# Altium schematic symbol library PDU-UV17.SchLib: 44 symbols
Pins are listed as number, name and electrical type; pins without a type are passive.

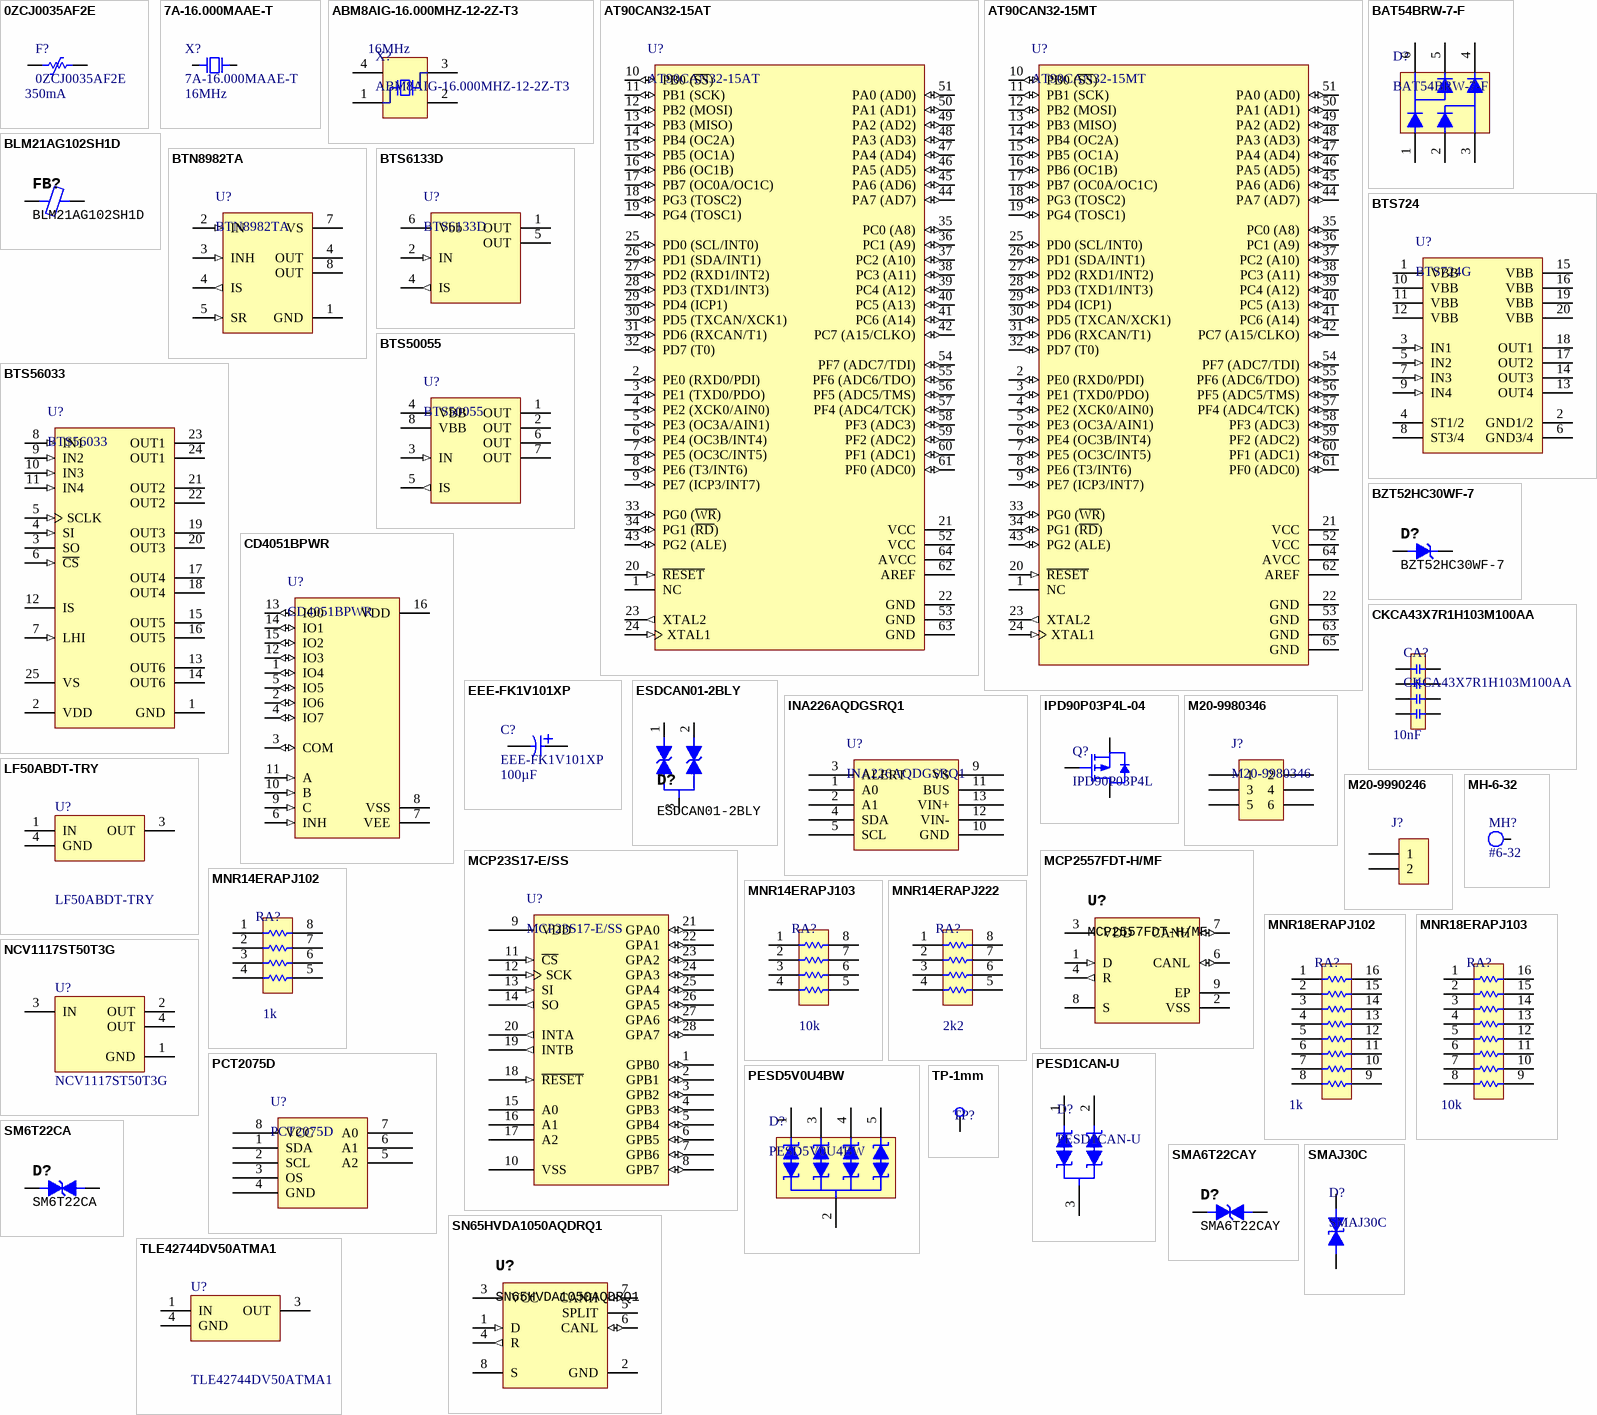
[diagram p0: symbols 0ZCJ0035AF2E to TP-1mm]

## 0ZCJ0035AF2E
designator F?  value 350mA
footprint 0ZCJ-1206-0.9
pins: 1, 2

## 7A-16.000MAAE-T
designator X?  value 16MHz
SMD Crystal Oscillator 12 pF; Load Capacitance: 12pF; Supplier 1: Digi-Key; Supplier Part Number 1: 887-1747-1-ND
footprint QFN200P500X320X135-2N (QFN, 2-Leads, Body 5.00x3.20mm, Pitch 2.00mm, IPC Medium Density)
pins: 1, 2

## ABM8AIG-16.000MHZ-12-2Z-T3
designator X?  value 16MHz
SMD Crystal Oscillator 12 pF; Load Capacitance: 12pF; Supplier 1: Digi-Key; Supplier Part Number 1: 535-13386-1-ND
footprint DFN600P310X80-4N (DFN, 4-Leads, Body 2.50x3.10mm, Pitch 6.00mm, IPC Medium Density)
pins: 1, 2, 3, 4

## AT90CAN32-15AT
designator U?
Supplier 1: Digi-Key; Supplier Part Number 1: AT90CAN32-15ATCT-ND
footprint TQFP80P1600X1600X120-64N (TQFP, 64-Leads, Body 14.00x14.00mm, Pitch 0.80mm, IPC Medium Density)
pins: 1 NC, 2 PE0 (RXD0/PDI) (io), 3 PE1 (TXD0/PDO) (io), 4 PE2 (XCK0/AIN0) (io), 5 PE3 (OC3A/AIN1) (io), 6 PE4 (OC3B/INT4) (io), 7 PE5 (OC3C/INT5) (io), 8 PE6 (T3/INT6) (io), 9 PE7 (ICP3/INT7) (io), 10 PB0 (~{SS}) (io), 11 PB1 (SCK) (io), 12 PB2 (MOSI) (io), 13 PB3 (MISO) (io), 14 PB4 (OC2A) (io), 15 PB5 (OC1A) (io), 16 PB6 (OC1B) (io), 17 PB7 (OC0A/OC1C) (io), 18 PG3 (TOSC2) (io), 19 PG4 (TOSC1) (io), 20 ~{RESET} (in), 21 VCC (power), 22 GND (power), 23 XTAL2 (out), 24 XTAL1 (in), 25 PD0 (SCL/INT0) (io), 26 PD1 (SDA/INT1) (io), 27 PD2 (RXD1/INT2) (io), 28 PD3 (TXD1/INT3) (io), 29 PD4 (ICP1) (io), 30 PD5 (TXCAN/XCK1) (io), 31 PD6 (RXCAN/T1) (io), 32 PD7 (T0) (io), 33 PG0 (~{WR}) (io), 34 PG1 (~{RD}) (io), 35 PC0 (A8) (io), 36 PC1 (A9) (io), 37 PC2 (A10) (io), 38 PC3 (A11) (io), 39 PC4 (A12) (io), 40 PC5 (A13) (io), 41 PC6 (A14) (io), 42 PC7 (A15/CLKO) (io), 43 PG2 (ALE) (io), 44 PA7 (AD7) (io), 45 PA6 (AD6) (io), 46 PA5 (AD5) (io), 47 PA4 (AD4) (io), 48 PA3 (AD3) (io), 49 PA2 (AD2) (io), 50 PA1 (AD1) (io), 51 PA0 (AD0) (io), 52 VCC (power), 53 GND (power), 54 PF7 (ADC7/TDI) (io), 55 PF6 (ADC6/TDO) (io), 56 PF5 (ADC5/TMS) (io), 57 PF4 (ADC4/TCK) (io), 58 PF3 (ADC3) (io), 59 PF2 (ADC2) (io), 60 PF1 (ADC1) (io), 61 PF0 (ADC0) (io), 62 AREF (power), 63 GND (power), 64 AVCC (power)

## AT90CAN32-15MT
designator U?
Supplier 1: Digi-Key; Supplier Part Number 1: AT90CAN32-15MTCT-ND
footprint QFN50P900X900X100_HS-65N (QFN, 64-Leads, Body 9.00x9.00mm, Pitch 0.50mm, Thermal Pad 5.38x5.38mm, IPC Medium Density)
pins: 1 NC, 2 PE0 (RXD0/PDI) (io), 3 PE1 (TXD0/PDO) (io), 4 PE2 (XCK0/AIN0) (io), 5 PE3 (OC3A/AIN1) (io), 6 PE4 (OC3B/INT4) (io), 7 PE5 (OC3C/INT5) (io), 8 PE6 (T3/INT6) (io), 9 PE7 (ICP3/INT7) (io), 10 PB0 (~{SS}) (io), 11 PB1 (SCK) (io), 12 PB2 (MOSI) (io), 13 PB3 (MISO) (io), 14 PB4 (OC2A) (io), 15 PB5 (OC1A) (io), 16 PB6 (OC1B) (io), 17 PB7 (OC0A/OC1C) (io), 18 PG3 (TOSC2) (io), 19 PG4 (TOSC1) (io), 20 ~{RESET} (in), 21 VCC (power), 22 GND (power), 23 XTAL2 (out), 24 XTAL1 (in), 25 PD0 (SCL/INT0) (io), 26 PD1 (SDA/INT1) (io), 27 PD2 (RXD1/INT2) (io), 28 PD3 (TXD1/INT3) (io), 29 PD4 (ICP1) (io), 30 PD5 (TXCAN/XCK1) (io), 31 PD6 (RXCAN/T1) (io), 32 PD7 (T0) (io), 33 PG0 (~{WR}) (io), 34 PG1 (~{RD}) (io), 35 PC0 (A8) (io), 36 PC1 (A9) (io), 37 PC2 (A10) (io), 38 PC3 (A11) (io), 39 PC4 (A12) (io), 40 PC5 (A13) (io), 41 PC6 (A14) (io), 42 PC7 (A15/CLKO) (io), 43 PG2 (ALE) (io), 44 PA7 (AD7) (io), 45 PA6 (AD6) (io), 46 PA5 (AD5) (io), 47 PA4 (AD4) (io), 48 PA3 (AD3) (io), 49 PA2 (AD2) (io), 50 PA1 (AD1) (io), 51 PA0 (AD0) (io), 52 VCC (power), 53 GND (power), 54 PF7 (ADC7/TDI) (io), 55 PF6 (ADC6/TDO) (io), 56 PF5 (ADC5/TMS) (io), 57 PF4 (ADC4/TCK) (io), 58 PF3 (ADC3) (io), 59 PF2 (ADC2) (io), 60 PF1 (ADC1) (io), 61 PF0 (ADC0) (io), 62 AREF (power), 63 GND (power), 64 AVCC (power), 65 GND (power)

## BAT54BRW-7-F
designator D?
footprint SOT65P210X110-6N (SOT23, 6-Leads, Body 2.00x2.10mm, Pitch 0.65mm, IPC Medium Density)
pins: 1, 2, 3, 4, 5, 6

## BLM21AG102SH1D
designator FB?
Supplier 1: Digi-Key; Supplier Part Number 1: 490-10664-1-ND
footprint INDC2012X11N (Chip Inductor, 2-Leads, Body 2.00x1.25mm, IPC Medium Density)
pins: 1, 2

## BTN8982TA
designator U?
footprint PG-TO263-7-1 (D2-PAK, 8-Pads, Body 7.82x8.46mm (max), IPC Medium Density)
pins: 1 GND (power), 2 IN (in) "Input, activates the power switch in case of short to ground", 3 INH (in), 4 OUT (power), 4 IS (out) "Diagnostic feedback providing a sense current proportional to the load current; zero current on failure (see Truth Table on page 7)", 5 SR (in), 7 VS (power), 8 OUT (power)

## BTS724
designator U?, comment BTS724G
Supplier 1: Digi-Key; Supplier Part Number 1: BTS724GXUMA1CT-ND
footprint SOP127P1030X265-20N (SOP, 20-Leads, Body 12.70x7.50mm, Pitch 1.27mm, IPC Medium Density)
pins: 1 VBB (power) "Positive power supply voltage. Design the wiring for the simultaneous max. short circuit currents from channel 1 to 2 and also for low thermal resistance", 2 GND1/2 (power) "Ground of chip 1 (channel 1,2)", 3 IN1 (in) "Input 1 activates channel 1 in case of logic high signal", 4 ST1/2 (oc) "Diagnostic feedback 1/2,3/4 of channel 1,2,3,4 open drain, low on failure", 5 IN2 (in) "Input 2 activates channel 2 in case of logic high signal", 6 GND3/4 (power) "Ground of chip 2 (channel 3,4)", 7 IN3 (in) "Input 3 activates channel 3 in case of logic high signal", 8 ST3/4 (oc) "Diagnostic feedback 1/2,3/4 of channel 1,2,3,4 open drain, low on failure", 9 IN4 (in) "Input 4 activates channel 4 in case of logic high signal", 10 VBB (power) "Positive power supply voltage. Design the wiring for the simultaneous max. short circuit currents from channel 1 to 2 and also for low thermal resistance", 11 VBB (power) "Positive power supply voltage. Design the wiring for the simultaneous max. short circuit currents from channel 1 to 2 and also for low thermal resistance", 12 VBB (power) "Positive power supply voltage. Design the wiring for the simultaneous max. short circuit currents from channel 1 to 2 and also for low thermal resistance", 13 OUT4 (power) "Output 1 protected high-side power output of channel 1. Design the wiring for the max. short circuit current", 14 OUT3 (power) "Output 1 protected high-side power output of channel 1. Design the wiring for the max. short circuit current", 15 VBB (power) "Positive power supply voltage. Design the wiring for the simultaneous max. short circuit currents from channel 1 to 2 and also for low thermal resistance", 16 VBB (power) "Positive power supply voltage. Design the wiring for the simultaneous max. short circuit currents from channel 1 to 2 and also for low thermal resistance", 17 OUT2 (power) "Output 1 protected high-side power output of channel 1. Design the wiring for the max. short circuit current", 18 OUT1 (power) "Output 1 protected high-side power output of channel 1. Design the wiring for the max. short circuit current", 19 VBB (power) "Positive power supply voltage. Design the wiring for the simultaneous max. short circuit currents from channel 1 to 2 and also for low thermal resistance", 20 VBB (power) "Positive power supply voltage. Design the wiring for the simultaneous max. short circuit currents from channel 1 to 2 and also for low thermal resistance"

## BTS6133D
designator U?
Supplier 1: Digi-Key; Supplier Part Number 1: BTS6133DCT-ND
footprint PG-TO220-5-11 (D-PAK, 5-Pads, Body 6.21x6.69mm (max), IPC Medium Density)
pins: 1 OUT (power) "Output to the load. The pins1,2,6 and 7 must be shorted with each other especially in high current applications!", 2 IN (in) "Input, activates the power switch in case of short to ground", 4 IS (out) "Diagnostic feedback providing a sense current proportional to the load current; zero current on failure (see Truth Table on page 7)", 5 OUT (power) "Output to the load. The pins1,2,6 and 7 must be shorted with each other especially in high current applications!", 6 Vbb (power) "Positive power supply voltage, the tab is electrically connected to this pin. In high current applications the tab should be used for the Vbb connection instead of this pin"

## BTS50055
designator U?
Supplier 1: Digi-Key; Supplier Part Number 1: BTS50055-1TMACT-ND
footprint P/PG-TO220-7-4 (DPAK, 7-Leads, Body 10x9.25mm, Pitch 1.27mm, IPC Low Density)
pins: 1 OUT (power) "Output to the load. The pins1,2,6 and 7 must be shorted with each other especially in high current applications!", 2 OUT (power) "Output to the load. The pins1,2,6 and 7 must be shorted with each other especially in high current applications!", 3 IN (in) "Input, activates the power switch in case of short to ground", 4 VBB (power) "Positive power supply voltage, the tab is electrically connected to this pin. In high current applications the tab should be used for the Vbb connection instead of this pin", 5 IS (out) "Diagnostic feedback providing a sense current proportional to the load current; zero current on failure (see Truth Table on page 7)", 6 OUT (power) "Output to the load. The pins1,2,6 and 7 must be shorted with each other especially in high current applications!", 7 OUT (power) "Output to the load. The pins1,2,6 and 7 must be shorted with each other especially in high current applications!", 8 VBB

## BTS56033
designator U?
footprint INF-TSON-24-3_V (TSON, 24-Leads, Body 9.5x6mm, Pitch 0.65mm)
pins: 1 GND (power) "Ground connection", 2 VDD (power) "Logic supply (5 V)", 3 SO (hiz) "Serial output of SPI interface", 4 SI (in) "Serial input of SPI interface (“high” active)", 5 SCLK (in) "Serial clock of SPI interface (“high” active)", 6 ~{CS} (in) "Chip select of SPI interface (“low” active); Integrated pull up do VDD", 7 LHI (in) "Limp home activation signal ("high" active)", 8 IN1 (in) "Input signal of channel 1 ("high" active)", 9 IN2 (in) "Input signal of channel 2 ("high" active)", 10 IN3 (in) "Input signal of channel 3 ("high" active)", 11 IN4 (in) "Input signal of channel 4 ("high" active)", 12 IS (hiz) "Current sense output signal", 13 OUT6 (power) "Protected high-side power output of channel 6", 14 OUT6 (power) "Protected high-side power output of channel 6", 15 OUT5 (power) "Protected high-side power output of channel 5", 16 OUT5 (power) "Protected high-side power output of channel 5", 17 OUT4 (power) "Protected high-side power output of channel 4", 18 OUT4 (power) "Protected high-side power output of channel 4", 19 OUT3 (power) "Protected high-side power output of channel 3", 20 OUT3 (power) "Protected high-side power output of channel 3", 21 OUT2 (power) "Protected high-side power output of channel 2", 22 OUT2 (power) "Protected high-side power output of channel 2", 23 OUT1 (power) "Protected high-side power output of channel 1", 24 OUT1 (power) "Protected high-side power output of channel 1", 25 VS (power) "Positive power supply for high-side power switch"

## BZT52HC30WF-7
designator D?
Supplier 1: Digi-Key; Supplier Part Number 1: BZT52HC30WF-7DICT-ND
footprint SODFL340X115-2N (SODFL, 2-Leads, Body 1.75x3.40mm, IPC Medium Density)
pins: 1 K, 2 A

## CD4051BPWR
designator U?
footprint TSOP65P640X120-16N (TSOP, 16-Leads, Body 5.00x4.40mm, Pitch 0.65mm, IPC Medium Density)
pins: 1 IO4 (io), 2 IO6 (io), 3 COM (io), 4 IO7 (io), 5 IO5 (io), 6 INH (in), 7 VEE (power), 8 VSS (power), 9 C (in), 10 B (in), 11 A (in), 12 IO3 (io), 13 IO0 (io), 14 IO1 (io), 15 IO2 (io), 16 VDD (power)

## CKCA43X7R1H103M100AA
designator CA?  value 10nF
footprint CAF-80P319X159-8N (Chip Array, Flat, 8-Leads, Pitch 0.80mm,  Body 3.20x1.60mm,  IPC Medium Density)
pins: 1, 2, 3, 4, 5, 6, 7, 8

## EEE-FK1V101XP
designator C?  value 100µF
Supplier 1: Digi-Key; Supplier Part Number 1: PCE3836CT-ND
footprint CAPAE7066X80M (Aluminum Electrolytic Capacitor, Body 6.60x6.60x8.00mm, IPC Low Density)
pins: 1, 2

## ESDCAN01-2BLY
designator D?
Supplier 1: Digi-Key; Supplier Part Number 1: 497-15333-1-ND
footprint SOT23-3 (SOT23, 3-Leads, Body 2.92x1.3mm, Pitch 0.95mm)
pins: 1, 2, 3

## INA226AQDGSRQ1
designator U?
Supplier 1: Digi-Key; Supplier Part Number 1: 296-42503-1-ND
footprint TSSOP50P490X110-10N (TSSOP, 10-Leads, Body 3.00x3.00mm, Pitch 0.50mm, IPC Medium Density)
pins: 1 A0, 2 A1, 3 ALERT, 4 SDA, 5 SCL, 9 VS, 10 GND, 11 BUS, 12 VIN-, 13 VIN+

## IPD90P03P4L-04
designator Q?, comment IPD90P03P4L
footprint DPAK228P998X235-3N (D-PAK, 3-Pads, Body 6.21x6.69mm (max), IPC Medium Density)
pins: 1 GATE, 3 SOURCE, 4 DRAIN

## LF50ABDT-TRY
designator U?
Supplier 1: Digi-Key; Supplier Part Number 1: 497-10199-1-ND
footprint TO-252-3 (D-PAK, 4-Leads, Body 6.1x6.5mm, Pitch 2.28mm, Lead Span 9.7mm, IPC Low Density)
pins: 1 IN (power), 3 OUT (power), 4 GND

## M20-9980346
designator J?
2.54mm Header 2x3-Pin; Supplier 1: Digi-Key; Supplier Part Number 1: 952-2121-ND
footprint M20-9980346
pins: 1, 2, 3, 4, 5, 6

## M20-9990246
designator J?  (value not drawn)
2.54mm Header 1x2-Pin; Supplier 1: Digi-Key; Supplier Part Number 1: 952-2262-ND
footprint M20-9990246
pins: 1, 2

## MCP23S17-E/SS
designator U?
footprint SOP65P780X185-28N (SOP, 28-Leads, Body 10.20x5.30mm, Pitch 0.65mm, IPC Medium Density)
pins: 1 GPB0 (io), 2 GPB1 (io), 3 GPB2 (io), 4 GPB3 (io), 5 GPB4 (io), 6 GPB5 (io), 7 GPB6 (io), 8 GPB7 (io), 9 VDD (power), 10 VSS (power), 11 ~{CS} (in), 12 SCK (in), 13 SI (in), 14 SO (out), 15 A0, 16 A1, 17 A2, 18 ~{RESET} (in), 19 INTB (out), 20 INTA (out), 21 GPA0 (io), 22 GPA1 (io), 23 GPA2 (io), 24 GPA3 (io), 25 GPA4 (io), 26 GPA5 (io), 27 GPA6 (io), 28 GPA7 (io)

## MCP2557FDT-H/MF
designator U?
CAN transceiver; Supplier 1: Digi-Key; Supplier Part Number 1: MCP2557FDT-H/MFCT-ND
footprint QFN65P300X300X90_HS-9N (QFN, 8-Leads, Body 3.00x3.00mm, Pitch 0.65mm, Thermal Pad 1.55x2.40mm, IPC Medium Density)
pins: 1 D (in) "Driver input", 2 VSS (power) "Ground", 3 VDD (power) "Supply voltage", 4 R (out) "Receiver output", 5 NC hidden "No connection", 6 CANL (io) "Low bus output", 7 CANH (io) "High bus outpu", 8 S "No connection", 9 EP (power) "Ground"

## MH-6-32
designator MH?, comment #6-32
footprint MH-6-32 (#6-32 mounting hole)
pins: 1

## MNR14ERAPJ102
designator RA?  value 1k  (hidden comment: MNR14ERAPJ102)
footprint CAC-80P319X150-8N (Chip Array, ConvexE, 8-Leads, Pitch 0.80mm,  Body 3.20x1.50mm,  IPC Medium Density)
pins: 1, 2, 3, 4, 5, 6, 7, 8

## MNR14ERAPJ103
designator RA?  value 10k  (hidden comment: MNR14ERAPJ103)
footprint CAC-80P319X150-8N (Chip Array, ConvexE, 8-Leads, Pitch 0.80mm,  Body 3.20x1.50mm,  IPC Medium Density)
pins: 1, 2, 3, 4, 5, 6, 7, 8

## MNR14ERAPJ222
designator RA?  value 2k2  (hidden comment: MNR14ERAPJ222)
footprint CAC-80P319X150-8N (Chip Array, ConvexE, 8-Leads, Pitch 0.80mm,  Body 3.20x1.50mm,  IPC Medium Density)
pins: 1, 2, 3, 4, 5, 6, 7, 8

## MNR18ERAPJ102
designator RA?  value 1k  (hidden comment: MNR18ERAPJ102)
footprint CAC-50P379X150-16N (Chip Array, ConvexE, 16-Leads, Pitch 0.50mm,  Body 3.80x1.50mm,  IPC Medium Density)
pins: 1, 2, 3, 4, 5, 6, 7, 8, 9, 10, 11, 12, 13, 14, 15, 16

## MNR18ERAPJ103
designator RA?  value 10k  (hidden comment: MNR18ERAPJ103)
footprint CAC-50P379X150-16N (Chip Array, ConvexE, 16-Leads, Pitch 0.50mm,  Body 3.80x1.50mm,  IPC Medium Density)
pins: 1, 2, 3, 4, 5, 6, 7, 8, 9, 10, 11, 12, 13, 14, 15, 16

## NCV1117ST50T3G
designator U?
Supplier 1: Digi-Key; Supplier Part Number 1: NCV1117ST50T3GOSCT-ND
footprint SOT230P700X180-4N (SOT223, 4-Leads, Body 6.50x7.00mm (avg), Pitch 2.30mm, IPC Medium Density)
pins: 1 GND, 2 OUT (power), 3 IN (power), 4 OUT (power)

## PCT2075D
designator U?
Supplier 1: Digi-Key; Supplier Part Number 1: 568-10956-1-ND
footprint TSOP65P490X110-8N (TSOP, 8-Leads, Body 3.00x3.00mm, Pitch 0.65mm, IPC Medium Density)
pins: 1 SDA, 2 SCL, 3 OS, 4 GND, 5 A2, 6 A1, 7 A0, 8 VCC

## PESD1CAN-U
designator D?
footprint SOT65P210X110-3N (SOT23, 3-Leads, Body 2.00x2.10mm, Pitch 0.65mm, IPC Medium Density)
pins: 1, 2, 3

## PESD5V0U4BW
designator D?
footprint SOTFL50P160X60-5N (SOTFL, 5-Leads, Body 1.60x1.60mm, Pitch 0.50mm, IPC Medium Density)
pins: 1, 2, 3, 4, 5

## SM6T22CA
designator D?
Supplier 1: Digi-Key; Supplier Part Number 1: 497-3507-1-ND
footprint SM6T (Molded Capacitor, 2-Leads, Body 4.32x3.63mm, IPC Medium Density)
pins: 1 K, 2 A

## SMA6T22CAY
designator D?
footprint DIOM4326X25N (Molded Diode, 2-Leads, Body 4.27x2.57mm, IPC Medium Density)
pins: 1 K, 2 A

## SMAJ30C
designator D?
footprint SON127P500X135-2N (SON, 2-Leads, Body 3.20x5.00mm, Pitch 1.27mm, IPC Medium Density)
pins: 1, 2

## SN65HVDA1050AQDRQ1
designator U?
CAN transceiver; Supplier 1: Digi-Key; Supplier Part Number 1: 296-25836-1-ND
footprint SOIC127P600X175-8M (SOIC, 8-Leads, Body 4.90x3.90mm, Pitch 1.27mm, IPC Low Density)
pins: 1 D (in) "Driver input", 2 GND (power) "Ground", 3 VCC (power) "Supply voltage", 4 R (out) "Receiver output", 5 SPLIT "No connection", 6 CANL (io) "Low bus output", 7 CANH (io) "High bus outpu", 8 S "No connection"

## TLE42744DV50ATMA1
designator U?
Supplier 1: Digi-Key; Supplier Part Number 1: TLE42744DV50ATMA1CT-ND
footprint DPAK228P998X235-3N (D-PAK, 3-Pads, Body 6.21x6.69mm (max), IPC Medium Density)
pins: 1 IN (power), 3 OUT (power), 4 GND

## TP-1mm
designator TP?, comment 1mm  (value not drawn)
footprint TP-1mm
pins: 1

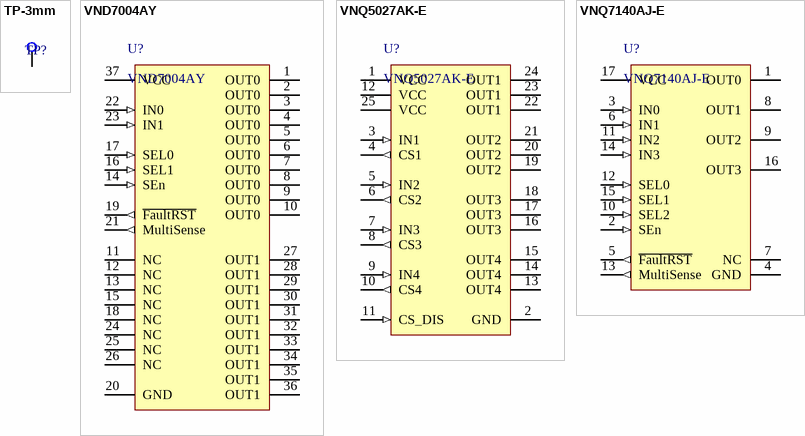
[diagram p1: symbols TP-3mm to VNQ7140AJ-E]

## TP-3mm
designator TP?, comment 3mm  (value not drawn)
footprint TP-3mm
pins: 1

## VND7004AY
designator U?
footprint SSOP50P1030X265_HS-37N (SSOP, 36-Leads, Body 10.30x7.50mm, Pitch 0.50mm, Thermal Pad 7.50x5.20mm, IPC Medium Density)
pins: 1 OUT0 (power), 2 OUT0 (power), 3 OUT0 (power), 4 OUT0 (power), 5 OUT0 (power), 6 OUT0 (power), 7 OUT0 (power), 8 OUT0 (power), 9 OUT0 (power), 10 OUT0 (power), 11 NC, 12 NC, 13 NC, 14 SEn (in), 15 NC, 16 SEL1 (in), 17 SEL0 (in), 18 NC, 19 ~{FaultRST} (out), 20 GND (power), 21 MultiSense (out), 22 IN0 (in), 23 IN1 (in), 24 NC, 25 NC, 26 NC, 27 OUT1 (power), 28 OUT1 (power), 29 OUT1 (power), 30 OUT1 (power), 31 OUT1 (power), 32 OUT1 (power), 33 OUT1 (power), 34 OUT1 (power), 35 OUT1 (power), 36 OUT1 (power), 37 VCC (power)

## VNQ5027AK-E
designator U?
Supplier 1: Digi-Key; Supplier Part Number 1: 497-11715-1-ND
footprint SOP80P1030X245_HS-25N (SOP, 24-Leads, Body 10.30x7.50mm, Pitch 0.80mm, Thermal Pad 7.10x4.70mm, IPC Medium Density)
pins: 1 VCC (power), 2 GND (power), 3 IN1 (in), 4 CS1 (out), 5 IN2 (in), 6 CS2 (out), 7 IN3 (in), 8 CS3 (out), 9 IN4 (in), 10 CS4 (out), 11 CS_DIS (in), 12 VCC (power), 13 OUT4 (power), 14 OUT4 (power), 15 OUT4 (power), 16 OUT3 (power), 17 OUT3 (power), 18 OUT3 (power), 19 OUT2 (power), 20 OUT2 (power), 21 OUT2 (power), 22 OUT1 (power), 23 OUT1 (power), 24 OUT1 (power), 25 VCC (power)

## VNQ7140AJ-E
designator U?
Supplier 1: Digi-Key; Supplier Part Number 1: 497-15995-1-ND
footprint SSOP50P600X170_HS-17N (SSOP, 16-Leads, Body 4.90x3.90mm, Pitch 0.50mm, Thermal Pad 4.20x2.50mm, IPC Medium Density)
pins: 1 OUT0 (power), 2 SEn (in), 3 IN0 (in), 4 GND (power), 5 ~{FaultRST} (out), 6 IN1 (in), 7 NC, 8 OUT1 (power), 9 OUT2 (power), 10 SEL2 (in), 11 IN2 (in), 12 SEL0 (in), 13 MultiSense (out), 14 IN3 (in), 15 SEL1 (in), 16 OUT3 (power), 17 VCC (power)